# Altium schematic symbol library SchlibKoruzaExpanderBoard.SchLib: 20 symbols
Pins are listed as number, name and electrical type; pins without a type are passive.

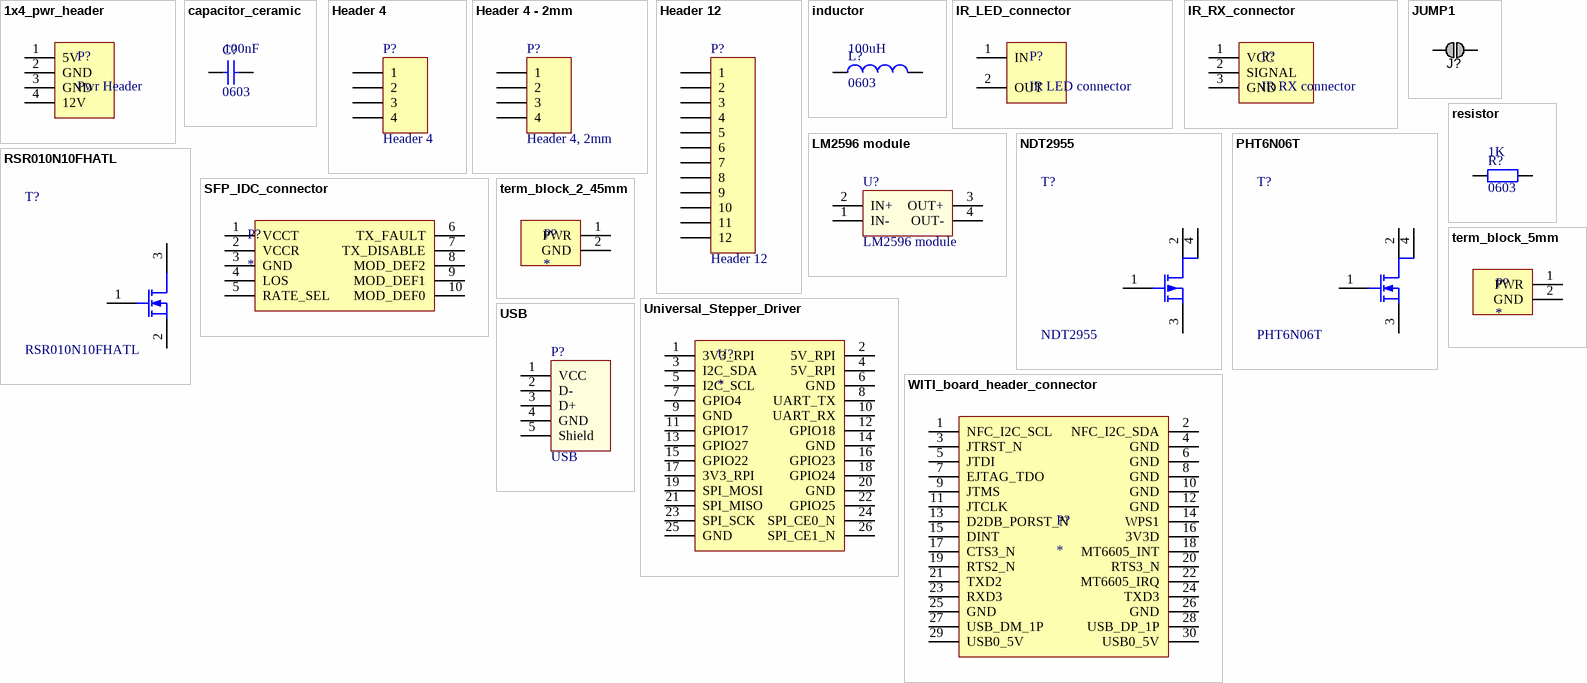
[diagram p0: symbols 1x4_pwr_header to WITI_board_header_connector]

## 1x4_pwr_header
designator P?, comment Pwr Header
1X4 Pwr Header
footprint HDR1X4 (Connector; Header; 4 Position)
pins: 1 5V, 2 GND, 3 GND, 4 12V

## capacitor_ceramic
designator C?, comment 0603  value 100nF
Ceramic Capacitor
footprint 0603 (Chip Resistor, 2-Leads, Body 1.6x0.8mm, IPC Medium Density)
footprint 0603_HandSoldering (Chip Resistor, 2-Leads, Body 1.6x0.8mm, IPC Medium Density)
pins: 1, 2

## Header 4
designator P?
Header, 4-Pin
footprint HDR1X4 (Connector; Header; 4 Position)
pins: 1, 2, 3, 4

## Header 4 - 2mm
designator P?, comment Header 4, 2mm
Header, 4-Pin, 2mm
footprint HDR1X4_2mm (Connector; Header; 4 Position; 2mm pitch)
pins: 1, 2, 3, 4

## Header 12
designator P?
Header, 12-Pin
footprint HDR1X12 (Connector; Header; 12 Position)
pins: 1, 2, 3, 4, 5, 6, 7, 8, 9, 10, 11, 12

## inductor
designator L?, comment 0603  value 100uH
Inductor
footprint 0603 (Chip Resistor, 2-Leads, Body 1.6x0.8mm, IPC Medium Density)
footprint 0603_HandSoldering (Chip Resistor, 2-Leads, Body 1.6x0.8mm, IPC Medium Density)
pins: 1, 2

## IR_LED_connector
designator P?, comment IR LED connector
footprint term_block_2_45mm (terminal block 2.45mm)
pins: 1 IN, 2 OUT

## IR_RX_connector
designator P?, comment IR RX connector
footprint term_block_3pole_2_45mm (terminal block 2.45mm 3-pole)
pins: 1 VCC, 2 SIGNAL, 3 GND

## JUMP1
designator J?, comment Jumper  (value not drawn)  (no BOM)
SMD jumper
footprint JUMP1 (SMT Battery jumper pads)
pins: 1, 2

## LM2596 module
designator U?
footprint LM2596 module (ebay LM2596 module)
pins: 1 IN-, 2 IN+, 3 OUT+, 4 OUT-

## NDT2955
designator T?
P MOSFET
footprint SOT230P700X180-4N (SOT223, 4-Leads, Body 6,50x7,00mm (avg), Pitch 2,30mm, IPC Medium Density)
pins: 1 G, 2 D, 3 S, 4 D

## PHT6N06T
designator T?
N MOSFET
footprint SOT230P700X180-4N (SOT223, 4-Leads, Body 6,50x7,00mm (avg), Pitch 2,30mm, IPC Medium Density)
pins: 1 G, 2 D, 3 S, 4 D

## resistor
designator R?, comment 0603  value 1K
Resistor
footprint 0603 (Chip Resistor, 2-Leads, Body 1.6x0.8mm, IPC Medium Density)
footprint 0603_HandSoldering (Chip Resistor, 2-Leads, Body 1.6x0.8mm, IPC Medium Density)
pins: 1, 2

## RSR010N10FHATL
designator T?
N MOSFET
footprint SOT23-3 (SOT23, 3-Leads, Body 2,90x2,80mm, Pitch 0,95mm, IPC Medium Density)
pins: 1 G, 2 S, 3 D

## SFP_IDC_connector
designator P?
SFP IDC10 connector
footprint IDC10 (2.54mm header 2x5)
pins: 1 VCCT, 2 VCCR, 3 GND, 4 LOS, 5 RATE_SEL, 6 TX_FAULT, 7 TX_DISABLE, 8 MOD_DEF2, 9 MOD_DEF1, 10 MOD_DEF0

## term_block_2_45mm
designator P?
terminal block, 2.45mm
footprint term_block_2_45mm (terminal block 2.45mm)
pins: 1 PWR, 2 GND

## term_block_5mm
designator P?
terminal block, 5mm
footprint MKDSN 2,5/ 2-5,08 and powercon (combined footprint)
pins: 1 PWR, 2 GND

## Universal_Stepper_Driver
designator U?
Universal Stepper Driver
footprint HDR2X13 (Connector; Header; 13x2 Position)
footprint Universal_Stepper_Driver_board (Universal Stepper Driver board)
pins: 1 3V3_RPI, 2 5V_RPI, 3 I2C_SDA, 4 5V_RPI, 5 I2C_SCL, 6 GND, 7 GPIO4, 8 UART_TX, 9 GND, 10 UART_RX, 11 GPIO17, 12 GPIO18, 13 GPIO27, 14 GND, 15 GPIO22, 16 GPIO23, 17 3V3_RPI, 18 GPIO24, 19 SPI_MOSI, 20 GND, 21 SPI_MISO, 22 GPIO25, 23 SPI_SCK, 24 SPI_CE0_N, 25 GND, 26 SPI_CE1_N

## USB
designator P?
USB A standard receptacle
footprint USB A THT
pins: 1 VCC (power), 2 D- (power), 3 D+ (power), 4 GND (power), 5 Shield (power)

## WITI_board_header_connector
designator P?
WITI board header connector
footprint HDR2X15 (Connector; Header; 15x2 Position)
pins: 1 NFC_I2C_SCL, 2 NFC_I2C_SDA, 3 JTRST_N, 4 GND, 5 JTDI, 6 GND, 7 EJTAG_TDO, 8 GND, 9 JTMS, 10 GND, 11 JTCLK, 12 GND, 13 D2DB_PORST_N, 14 WPS1, 15 DINT, 16 3V3D, 17 CTS3_N, 18 MT6605_INT, 19 RTS2_N, 20 RTS3_N, 21 TXD2, 22 MT6605_IRQ, 23 RXD3, 24 TXD3, 25 GND, 26 GND, 27 USB_DM_1P, 28 USB_DP_1P, 29 USB0_5V, 30 USB0_5V